# EAGLE library part MAX9019 (library rfops)
Dual Op Amp Maxim MAX9019
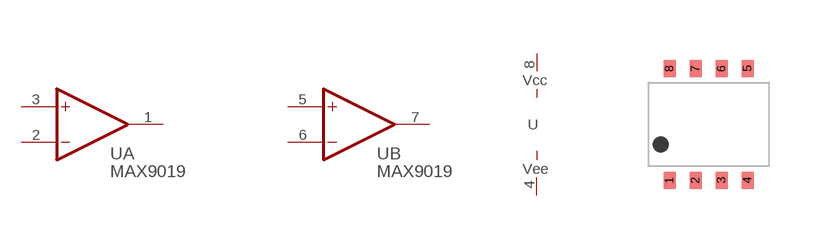
[diagram p5: symbol with the pads of 8SOT23; footprint 8SOT23]

Designator prefix U; gates A=MAX9019 B=MAX9019 G$3=OPAMP_PWR

## MAX9019  [8SOT23]
1  A:OUT1  out
2  A:-IN1  in
3  A:+IN1  in
4  G$3:VSS  pwr
5  B:+IN1  in
6  B:-IN1  in
7  B:OUT1  out
8  G$3:VDD  pwr

## Footprint 8SOT23 (pad centres in mm)
8SOT23
smd 0.3 x 0.437: 1 -0.975,-1.4; 2 -0.325,-1.4; 3 0.325,-1.4; 4 0.975,-1.4; 5 0.975,1.4; 6 0.325,1.4; 7 -0.325,1.4; 8 -0.975,1.4